# Altium footprint library ABM10AIG.PcbLib: 1 footprints
Each footprint in its own frame and in the unit in brackets; x right, y up, seen from the top. Pads: shape width x height; smd on the part's side, far side on the other; paste and mask are expansions set on the pad; w line width, h text height; cw(c..) or ccw(c..) is an arc to the next point about the centre after c.
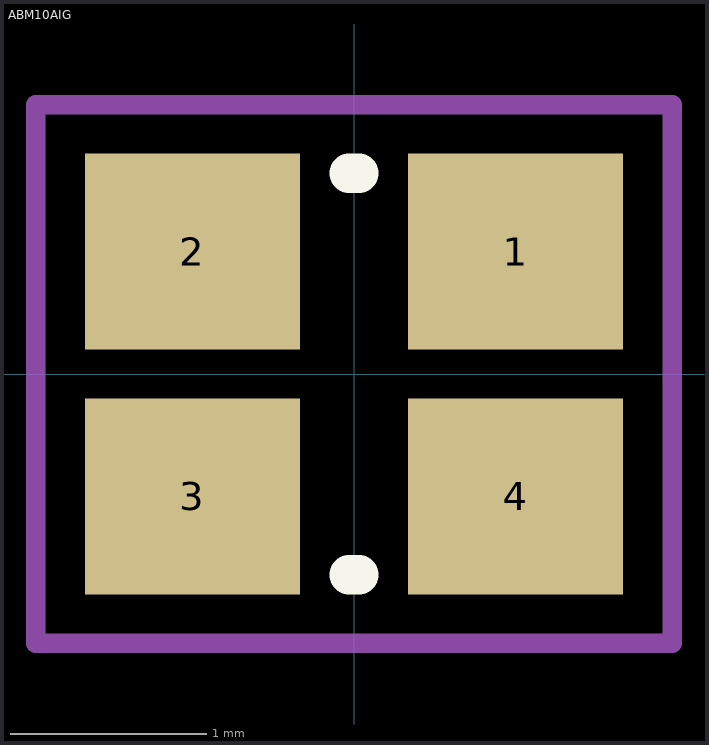
[diagram p0: the footprint, top view; thin cyan lines are the x and y axes]

## ABM10AIG [mm]
pads (4):
  rect 1.1x1 smd: 1(0.825,0.625) 2(-0.825,0.625) 3(-0.825,-0.625) 4(0.825,-0.625)
Top Overlay:
  lines w0.2: -0.025,-1.025 0.025,-1.025 ; -0.025,1.025 0.025,1.025
Top Courtyard:
  lines w0.1: -1.625,-1.375 -1.625,1.375 1.625,1.375 1.625,-1.375 -1.625,-1.375
3D body "ABM10AIG.STEP": height 0.55, standoff 0, extent -1.275,-1.025 1.275,1.025